# EAGLE library part TFDU4300 (library EPL)
Infrared Transceiver Module
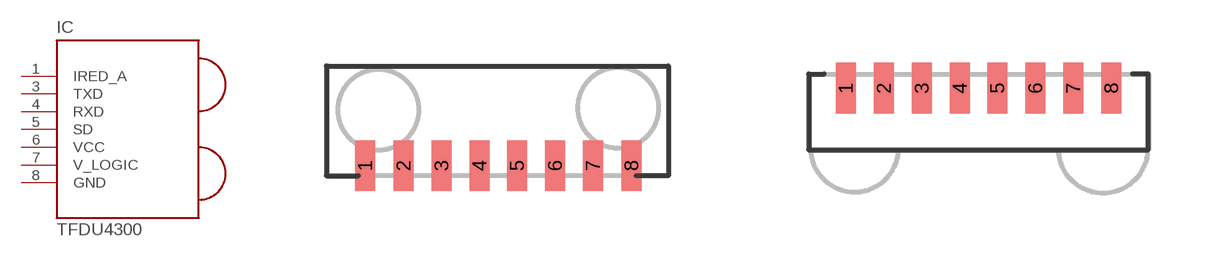
[diagram p3: symbol with the pads of TFDU4300; footprints TFDU4300, TFDU4300_TOP]

Designator prefix IC

## TFDU4300SIDE  [TFDU4300]
1  IRED_A
3  TXD
4  RXD
5  SD
6  VCC
7  V_LOGIC
8  GND

## TFDU4300TOP  [TFDU4300_TOP]
Pads as for TFDU4300

## Footprint TFDU4300 (pad centres in mm)
smd 0.508 x 1.27: 1 -3.33,0; 2 -2.37,0; 3 -1.42,0; 4 -0.47,0; 5 0.47,0; 6 1.42,0; 7 2.37,0; 8 3.33,0

## Footprint TFDU4300_TOP (pad centres in mm)
smd 0.508 x 1.27: 1 -3.32,0; 2 -2.37,0; 3 -1.42,0; 4 -0.47,0; 5 0.47,0; 6 1.42,0; 7 2.37,0; 8 3.32,0